# Altium schematic symbol library VS-15ETH06-M3.SchLib: 1 symbol
Pins are listed as number, name and electrical type; pins without a type are passive.

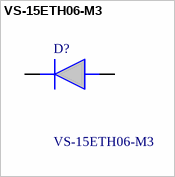
[diagram p0: symbol VS-15ETH06-M3]

## VS-15ETH06-M3
designator D?
Rectifiers 600V 15A TO-220 Fred Pt; Manufacturer_Name: Vishay; Geometry.Height: 4.65mm; Mouser Part Number: 78-VS-15ETH06-M3; Mouser Price/Stock: https://www.mouser.co.uk/ProductDetail/Vishay-Semiconductors/VS-15ETH06-M3?qs=F5EMLAvA7ID9zHqiI9WHWg%3D%3D; Manufacturer_Part_Number: VS-15ETH06-M3; Datasheet Link: https://www.vishay.com/docs/96174/vs-15eth06.pdf
footprint TO508P465X1031X1932-2P
pins: 1 K, 2 A